# EAGLE library part SWD-10/TC2050 (library ModuleCarrier-ISM4334X-M4G-L44)
1mm pitch 10-Pin Cortex Programming Header with optional TC2050 footprint solderless interchangeable
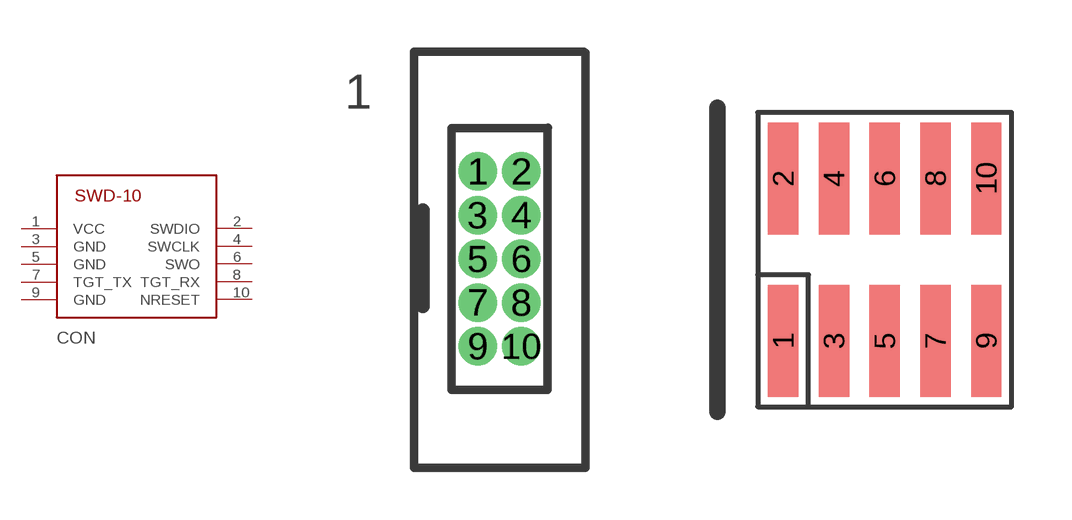
[diagram p5: symbol with the pads of SWD-10-PTH; footprints SWD-10-PTH, FTSH-105-02]

Designator prefix CON

## SWD-10/TC2050_PTH  [SWD-10-PTH]
1  VCC
2  SWDIO
3  GND
4  SWCLK
5  GND
6  SWO
7  TGT_TX
8  TGT_RX
9  GND
10  NRESET

## SWD-10/TC2050_SMD  [FTSH-105-02]
Pads as for SWD-10-PTH

## SWD-10/TC2050_TC2050-WITH-PASTE  [TC050-WITH-PASTE]
Pads as for SWD-10-PTH

## SWD-10/TC2050_TC2050-WITHOUT  [TC2050-WITHOUT-PASTE]
Pads as for SWD-10-PTH

## Footprint SWD-10-PTH (pad centres in mm)
drill 0.61 pad 0.9: 1 0,0; 2 1.27,0; 3 0,-1.27; 4 1.27,-1.27; 5 0,-2.54; 6 1.27,-2.54; 7 0,-3.81; 8 1.27,-3.81; 9 0,-5.08; 10 1.27,-5.08

## Footprint FTSH-105-02 (pad centres in mm)
smd 0.762 x 2.794: 1 0.381,-2.032; 2 0.381,2.032; 3 1.651,-2.032; 4 1.651,2.032; 5 2.921,-2.032; 6 2.921,2.032; 7 4.191,-2.032; 8 4.191,2.032; 9 5.461,-2.032; 10 5.461,2.032

## Footprint TC050-WITH-PASTE (pad centres in mm)
smd 0.762 x 2.794: 1 0.381,-1.778; 2 0.381,1.778; 3 1.651,-1.778; 4 1.651,1.778; 5 2.921,-1.778; 6 2.921,1.778; 7 4.191,-1.778; 8 4.191,1.778; 9 5.461,-1.778; 10 5.461,1.778
hole 1 at -0.889,0
hole 1 at 6.731,1.016
hole 1 at 6.731,-1.016

## Footprint TC2050-WITHOUT-PASTE (pad centres in mm)
smd 0.762 x 2.794: 1 0.381,-1.778; 2 0.381,1.778; 3 1.651,-1.778; 4 1.651,1.778; 5 2.921,-1.778; 6 2.921,1.778; 7 4.191,-1.778; 8 4.191,1.778; 9 5.461,-1.778; 10 5.461,1.778
hole 1 at -0.889,0
hole 1 at 6.731,1.016
hole 1 at 6.731,-1.016